# Altium schematic symbol library transistors.SchLib: 15 symbols
Pins are listed as number, name and electrical type; pins without a type are passive.

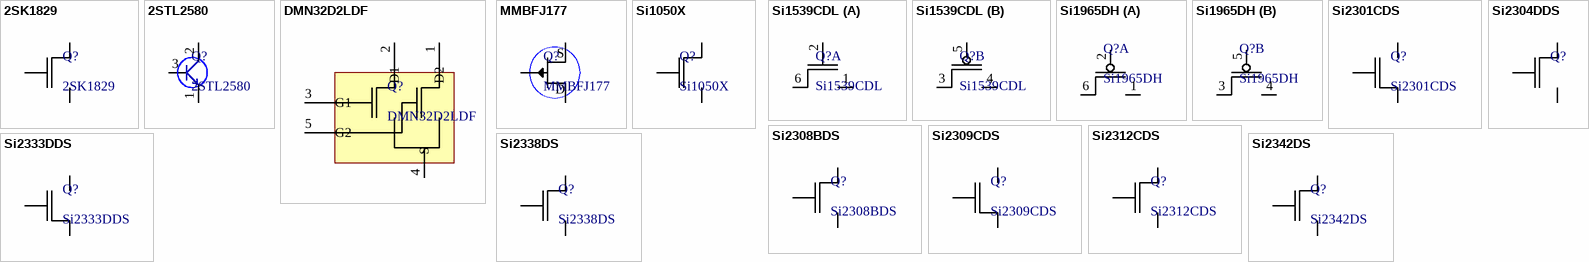
[diagram p0: symbols 2SK1829 to Si2342DS]

## 2SK1829
designator Q?
N-Channel 20 V (D-S) MOSFET; Supplier 1: Digi-Key; Supplier Part Number 1: 2SK1829TE85LFCT-ND
footprint SOT323
pins: 1 G, 2 S, 3 D

## 2STL2580
designator Q?
High voltage fast switching NPN power transistor; Supplier 1: Digi-Key; Supplier Part Number 1: 497-12126-ND
footprint TO-92MOD
pins: 1 E, 2 E, 3 E

## DMN32D2LDF
designator Q?
Common Source Dual N-Channel MOSFET; Supplier 1: Digi-Key; Supplier Part Number 1: DMN32D2LDF-7DICT-ND
footprint SOT-353-5
pins: 1 D2, 2 D1, 3 G1, 4 S, 5 G2

## MMBFJ177
designator Q?
P-channel JFET; Supplier 1: Digi-Key; Supplier Part Number 1: MMBFJ177LT1GOSCT-ND
footprint SOT23-3 (SOT23, 3-Leads, Body 2.9x1.3mm, Pitch 0.95mm, Lead Span 2.3mm, IPC Medium Density)
pins: 1 D, 2 S, 3 G

## Si1050X
designator Q?
N-Channel 8 V (D-S) MOSFET; Supplier 1: Digi-Key; Supplier Part Number 1: SI1050X-T1-GE3CT-ND
footprint SC89
pins: 1 D, 2 D, 3 G, 4 S, 5 D, 6 D

## Si1539CDL
designator Q?
N- and P-Channel 30 V (D-S) MOSFET; Supplier 1: Digi-Key; Supplier Part Number 1: SI1539CDL-T1-GE3CT-ND
footprint SC70-6
part A pins: 1 S1, 2 G1, 6 D1
part B pins: 3 D2, 4 S2, 5 G2

## Si1965DH
designator Q?
Dual P-Channel 12 V (D-S) MOSFET; Supplier 1: Digi-Key; Supplier Part Number 1: SI1965DH-T1-GE3CT-ND
footprint SC70-6
part A pins: 1 S1, 2 G1, 6 D1
part B pins: 3 D2, 4 S2, 5 G2

## Si2301CDS
designator Q?
P-Channel 20 V (D-S) MOSFET; Supplier 1: Digi-Key; Supplier Part Number 1: SI2301CDS-T1-E3CT-ND
footprint SOT23-3 (SOT23, 3-Leads, Body 2.9x1.3mm, Pitch 0.95mm, Lead Span 2.3mm, IPC Medium Density)
pins: 1 G, 2 S, 3 D

## Si2304DDS
designator Q?  (value not drawn)
N-Channel 30-V (D-S) MOSFET; Supplier 1: Digi-Key; Supplier Part Number 1: SI2304DDS-T1-GE3CT-ND
footprint SOT23-3 (SOT23, 3-Leads, Body 2.9x1.3mm, Pitch 0.95mm, Lead Span 2.3mm, IPC Medium Density)
pins: 1 G, 2 S, 3 D

## Si2308BDS
designator Q?
N-Channel 60-V (D-S) MOSFET; Supplier 1: Digi-Key; Supplier Part Number 1: SI2308BDS-T1-E3CT-ND
footprint SOT23-3 (SOT23, 3-Leads, Body 2.9x1.3mm, Pitch 0.95mm, Lead Span 2.3mm, IPC Medium Density)
pins: 1 G, 2 S, 3 D

## Si2309CDS
designator Q?
P-Channel 60-V (D-S) MOSFET; Supplier 1: Digi-Key; Supplier Part Number 1: SI2309CDS-T1-E3CT-ND
footprint SOT23-3 (SOT23, 3-Leads, Body 2.9x1.3mm, Pitch 0.95mm, Lead Span 2.3mm, IPC Medium Density)
pins: 1 G, 2 S, 3 D

## Si2312CDS
designator Q?
N-Channel 20 V (D-S) MOSFET; Supplier 1: Digi-Key; Supplier Part Number 1: SI2312CDS-T1-GE3CT-ND
footprint SOT23-3 (SOT23, 3-Leads, Body 2.9x1.3mm, Pitch 0.95mm, Lead Span 2.3mm, IPC Medium Density)
pins: 1 G, 2 S, 3 D

## Si2333DDS
designator Q?
P-Channel 12 V (D-S) MOSFET; Supplier 1: Digi-Key; Supplier Part Number 1: SI2333DDS-T1-GE3CT-ND
footprint SOT23-3 (SOT23, 3-Leads, Body 2.9x1.3mm, Pitch 0.95mm, Lead Span 2.3mm, IPC Medium Density)
pins: 1 G, 2 S, 3 D

## Si2338DS
designator Q?
N-Channel 30 V (D-S) MOSFET; Supplier 1: Digi-Key; Supplier Part Number 1: SI2338DS-T1-GE3CT-ND
footprint SOT23-3 (SOT23, 3-Leads, Body 2.9x1.3mm, Pitch 0.95mm, Lead Span 2.3mm, IPC Medium Density)
pins: 1 G, 2 S, 3 D

## Si2342DS
designator Q?
N-Channel 8 V (D-S) MOSFET; Supplier 1: Digi-Key; Supplier Part Number 1: SI2342DS-T1-GE3CT-ND
footprint SOT23-3 (SOT23, 3-Leads, Body 2.9x1.3mm, Pitch 0.95mm, Lead Span 2.3mm, IPC Medium Density)
pins: 1 G, 2 S, 3 D